# Altium schematic symbol library dc converter.SchLib: 1 symbol
Pins are listed as number, name and electrical type; pins without a type are passive.

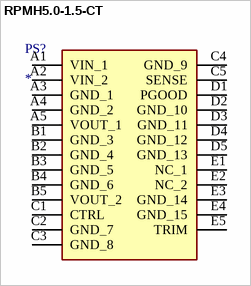
[diagram p0: symbol RPMH5.0-1.5-CT]

## RPMH5.0-1.5-CT
designator PS?
Power Supply; Manufacturer_Name: RECOM Power; Manufacturer_Part_Number: RPMH5.0-1.5-CT; Datasheet Link: https://recom-power.com/pdf/Innoline/RPMH-1.5.pdf; Height: 4mm
footprint RPMH5015
pins: A1 VIN_1, A2 VIN_2, A3 GND_1, A4 GND_2, A5 VOUT_1, B1 GND_3, B2 GND_4, B3 GND_5, B4 GND_6, B5 VOUT_2, C1 CTRL, C2 GND_7, C3 GND_8, C4 GND_9, C5 SENSE, D1 PGOOD, D2 GND_10, D3 GND_11, D4 GND_12, D5 GND_13, E1 NC_1, E2 NC_2, E3 GND_14, E4 GND_15, E5 TRIM